# Altium footprint library B58031U9254M062.PcbLib: 1 footprints
Each footprint in its own frame and in the unit in brackets; x right, y up, seen from the top. Pads: shape width x height; smd on the part's side, far side on the other; paste and mask are expansions set on the pad; w line width, h text height; cw(c..) or ccw(c..) is an arc to the next point about the centre after c.
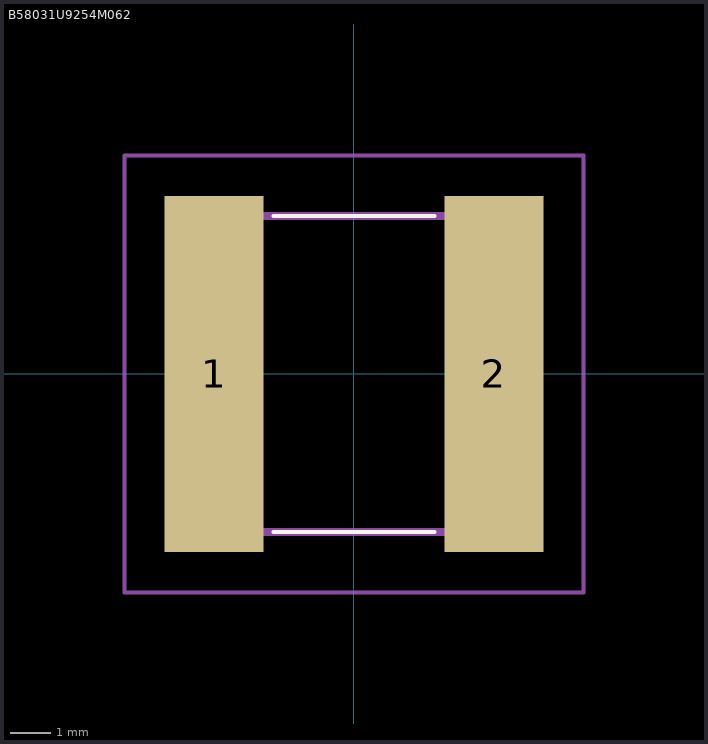
[diagram p0: the footprint, top view; thin cyan lines are the x and y axes]

## B58031U9254M062 [mm]
pads (2):
  rect 2.45x8.85 smd: 1(-3.475,0) 2(3.475,0)
Top Overlay:
  lines w0.1: -2,-3.925 2,-3.925 ; -2,3.925 2,3.925
Mechanical 15:
  lines w0.2: -3.57,-3.925 3.57,-3.925 3.57,3.925 -3.57,3.925 -3.57,-3.925
Mechanical 20:
  lines w0.1: -5.7,-5.425 5.7,-5.425 5.7,5.425 -5.7,5.425 -5.7,-5.425